# Altium schematic symbol library TG12864B-03.SchLib: 1 symbol
Pins are listed as number, name and electrical type; pins without a type are passive.

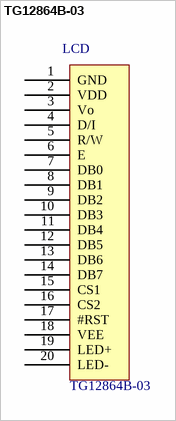
[diagram p0: symbol TG12864B-03]

## TG12864B-03
designator LCD  value TG12864B-03  (hidden comment: *)
footprint TG12864B-03
pins: 1 GND, 2 VDD, 3 Vo, 4 D/I, 5 R/W, 6 E, 7 DB0, 8 DB1, 9 DB2, 10 DB3, 11 DB4, 12 DB5, 13 DB6, 14 DB7, 15 CS1, 16 CS2, 17 #RST, 18 VEE, 19 LED+, 20 LED-